# Altium schematic symbol library P-Capacitor.Schlib: 1 symbol
Pins are listed as number, name and electrical type; pins without a type are passive.

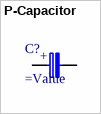
[diagram p0: symbol P-Capacitor]

## P-Capacitor
designator C?
Polarized capacitor
pins: 1, 2
text: +